# Altium footprint library Buzzer.PcbLib: 2 footprints
Each footprint in its own frame and in the unit in brackets; x right, y up, seen from the top. Pads: shape width x height; smd on the part's side, far side on the other; paste and mask are expansions set on the pad; w line width, h text height; cw(c..) or ccw(c..) is an arc to the next point about the centre after c.
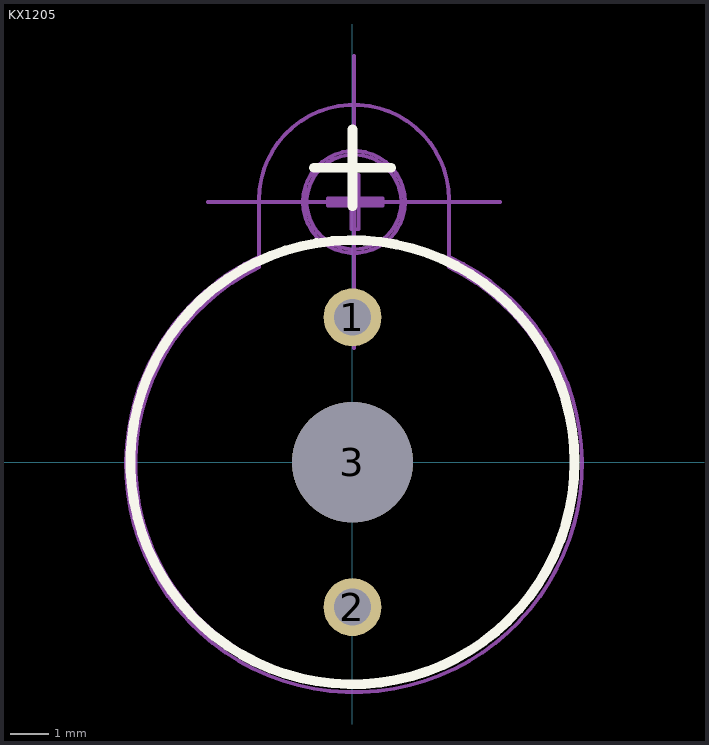
[diagram p0: the footprints below, top view; thin cyan lines are the x and y axes]

## KX1205 [mil]
pads (3):
  round 60 hole 38: 1(0,150) 2(0,-150)
  round 125 hole 125 unplated: 3(0,0)
Top Overlay:
  circle w10: c0,0 r230
  lines w10: -40,305 40,305 ; 0,265 0,345
Top Assembly:
  circle w3.94: c1.57,269.56 r48.99
  circle w3.94: c1.57,269.56 r52.93
  lines w3.94: -149.78,269.56 -96.85,269.56 1.57,269.56 ; -96.85,212.77 ccw(c1.57,-1.97) 100,212.77 ; 1.57,118.2 1.57,171.13 1.57,269.56 ; 1.57,420.92 1.57,367.98 1.57,269.56 ; 152.93,269.56 100,269.56 1.57,269.56 ; -96.85,201.89 ccw(c1.57,-1.97) 100,201.89 100,271.82 ccw(c1.57,271.82) -96.85,271.82 -96.85,201.89 ; -25.68,265.78 -1.1,265.78 -1.1,241.21 6.38,241.21 6.38,265.78 30.95,265.78 30.95,273.26 6.38,273.26 6.38,297.84 -1.1,297.84 -1.1,273.26 -25.68,273.26 -25.68,265.78
3D body "ALSRobot-BUZZER.step": height 379.92, standoff -177.17, extent -236.22,-236.22 236.22,372.21

## PCBComponent_1 [mil]